# Altium footprint library ToolSub.PcbLib: 23 footprints (part 2 of 2)
Each footprint in its own frame and in the unit in brackets; x right, y up, seen from the top. Pads: shape width x height; smd on the part's side, far side on the other; paste and mask are expansions set on the pad; w line width, h text height; cw(c..) or ccw(c..) is an arc to the next point about the centre after c.
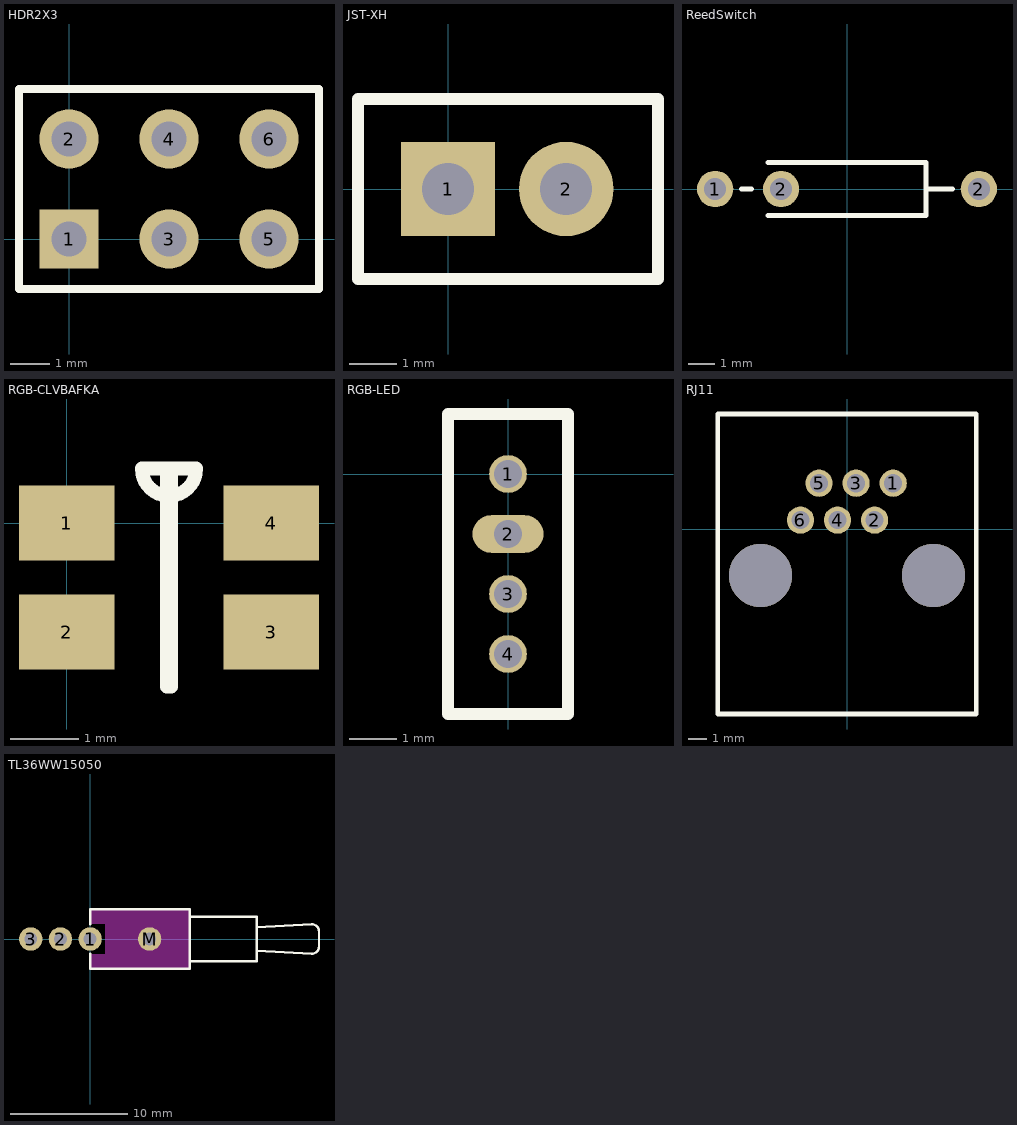
[diagram p1: the footprints below, top view; thin cyan lines are the x and y axes]

## HDR2X3 [mm] "Connector; Header; 3x2 Position"
pads (6):
  rect 1.5x1.5 hole 0.9: 1(0,0)
  round 1.5 hole 0.9: 2(0,2.54) 3(2.54,0) 4(2.54,2.54) 5(5.08,0) 6(5.08,2.54)
Top Overlay:
  lines w0.2: 1.482,-1.27 6.35,-1.27 ; 6.35,-1.27 6.35,3.81 -1.27,3.81 -1.27,-1.27 6.35,-1.27

## JST-XH [mm] "JST-XH"
pads (2):
  rect 2x2 hole 1.1: 1(0,0)
  round 2 hole 1.1: 2(2.5,0)
Top Overlay:
  lines w0.254: -1.905,-1.905 4.445,-1.905 4.445,1.905 -1.905,1.905 -1.905,-1.905

## ReedSwitch [mm] "Axial Device, Thru-Hole; 2 Leads; 0.4 in Pin Spacing"
height 2.032
pads (3):
  round 1.4 hole 0.85: 1(-5.08,0) 2(-2.54,0) 2(5.08,0)
Top Overlay:
  lines w0.2: -4.064,0 -3.683,0 ; -3.048,-1.016 3.048,-1.016 3.048,1.016 -3.048,1.016 ; 3.048,0 4.064,0

## RGB-CLVBAFKA [mm]
pads (4):
  rect 1.4x1.1 smd: 1(0,0) 2(0,-1.6) 3(3,-1.6) 4(3,0)
Top Overlay:
  lines w0.2: 1.1,0.8 ccw(c1.5,0.8) 1.9,0.8 1.465,0.8 1.465,-2.4 1.535,-2.4 1.535,0.8 1.1,0.8

## RGB-LED [mm]
pads (4):
  round 0.8 hole 0.6: 1(0,0) 3(0,-2.54) 4(0,-3.81)
  oval 1.5x0.8 hole 0.6: 2(0,-1.27)
Top Overlay:
  lines w0.254: -1.27,-5.08 -1.27,0.635 -1.27,1.27 1.27,1.27 1.27,0.635 1.27,-5.08 -1.27,-5.08

## RJ11 [mm]
pads (6):
  round 1.5 hole 1: 1(2.54,2.54) 2(1.52,0.51) 3(0.5,2.54) 4(-0.52,0.51) 5(-1.54,2.54) 6(-2.56,0.51)
via 4.76,-2.54 diameter 3.45 hole 3.45
via -4.76,-2.54 diameter 3.45 hole 3.45
Top Overlay:
  lines w0.254: -7.112,-10.16 -7.112,6.35 7.112,6.35 7.112,-10.16 -7.112,-10.16

## TL36WW15050 [mm] "Switch; 4 Leads"
pads (4):
  round 2 hole 1.1: 1(0,0) 2(-2.54,0) 3(-5.08,0) M(5.08,0)
Top Layer keep-out:
  region: 0,-1.27 0,-2.54 1.27,-2.54 1.27,-1.27
  region: 0,2.54 0,1.27 1.27,1.27 1.27,2.54
  region: 1.27,2.54 1.27,-2.54 8.509,-2.54 8.509,2.54
Top Overlay:
  lines w0.2: 0,-1.27 0,-2.54 8.509,-2.54 8.509,2.54 0,2.54 0,1.27 ; 8.509,-1.905 14.224,-1.905 14.224,1.905 8.509,1.905 ; 14.224,-1.016 18.923,-1.27 ccw(c18.923,-0.635) 19.558,-0.635 19.558,0.635 ccw(c18.923,0.635) 18.923,1.27 14.224,1.016